# Altium footprint library diode.PcbLib: 63 footprints (part 3 of 4)
Each footprint in its own frame and in the unit in brackets; x right, y up, seen from the top. Pads: shape width x height; smd on the part's side, far side on the other; paste and mask are expansions set on the pad; w line width, h text height; cw(c..) or ccw(c..) is an arc to the next point about the centre after c.
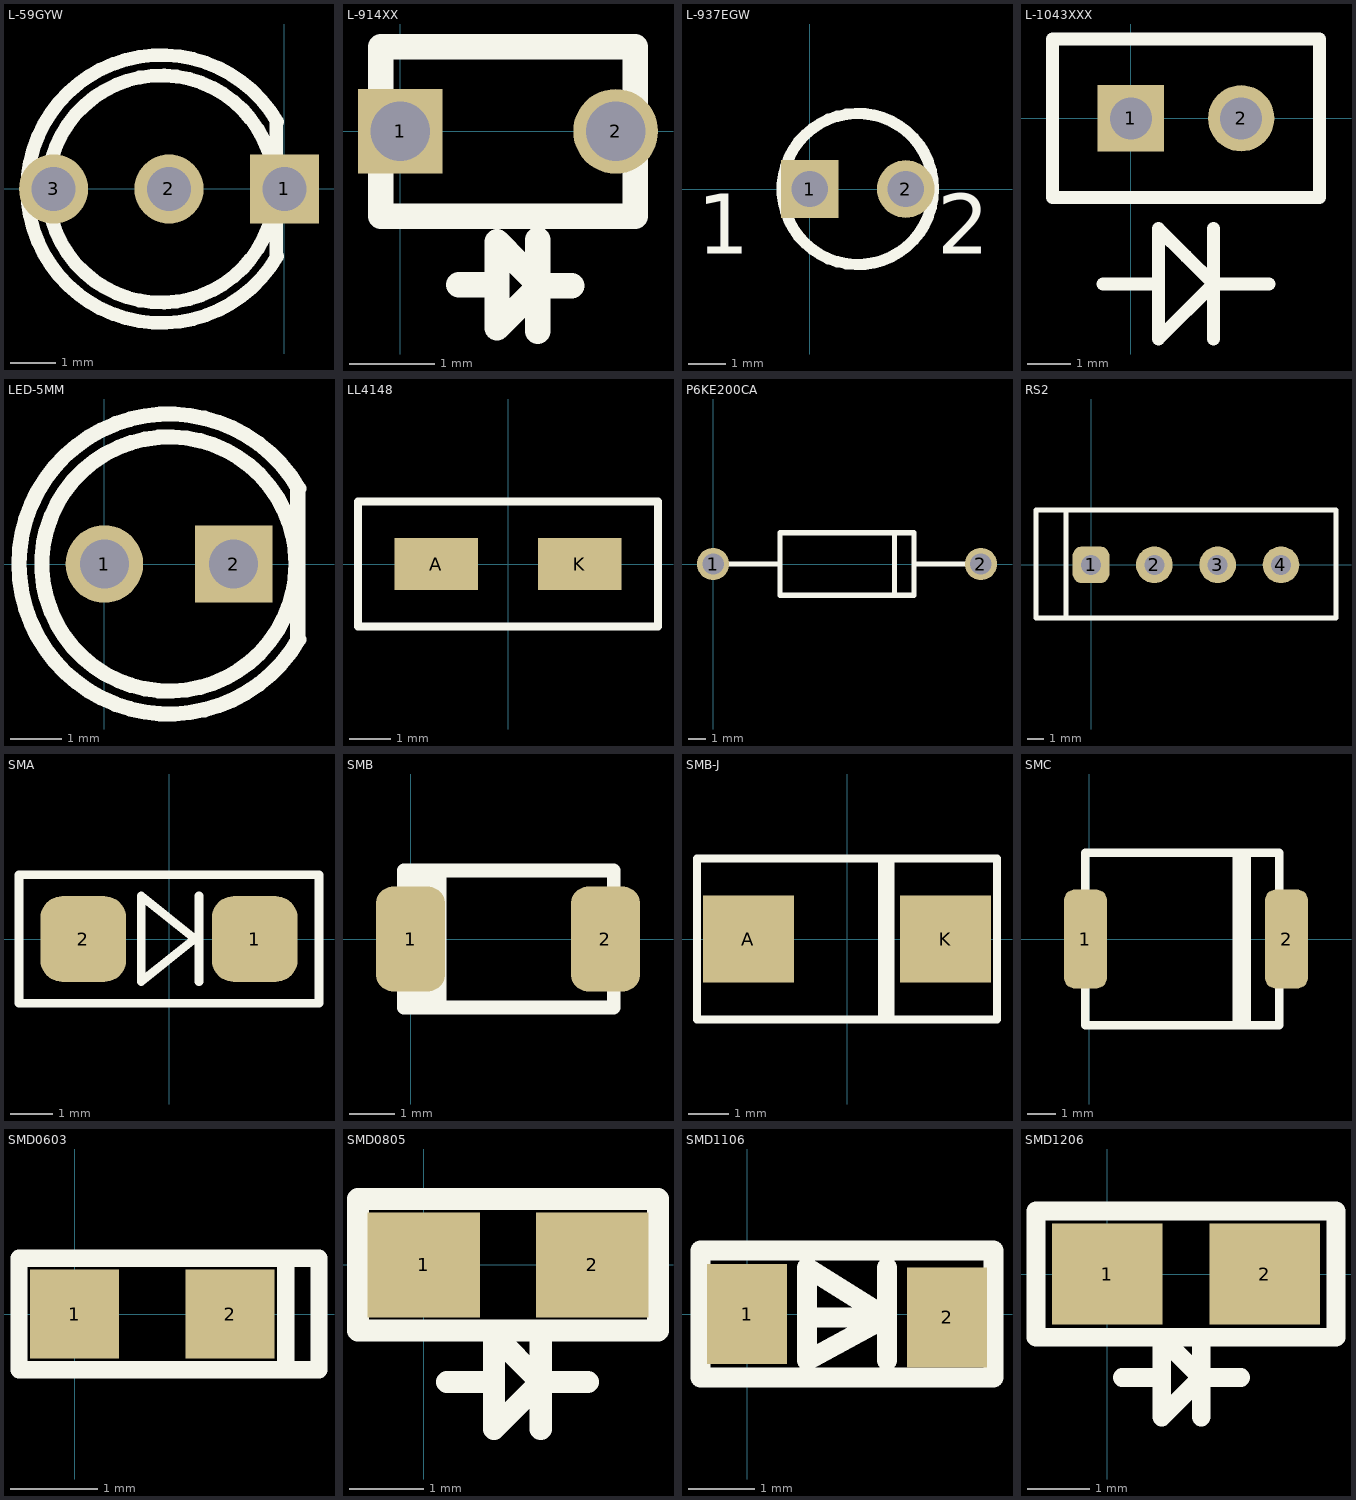
[diagram p2: the footprints below, top view; thin cyan lines are the x and y axes]

## L-59GYW [mil]
pads (3):
  rect 60x60 hole 38: 1(0,0)
  round 60 hole 38: 2(-100,0) 3(-200,0)
Top Overlay:
  circle w11.81: c-106.69,0 r98.43
  lines w11.81: -7.09,-59.06 -7.09,59.06 ; -6.31,-58.42 cw(c-106.69,0) -6.31,58.42

## L-914XX [mm]
pads (2):
  rect 1x1 hole 0.7: 1(0,0)
  round 1 hole 0.7: 2(2.54,0)
Top Overlay:
  lines w0.3: 0.69,-1.81 1.14,-1.81 ; 1.27,-1 2.77,-1 ; 1.62,-2.36 1.62,-1.28 ; 2.02,-1.82 1.645,-1.82 ; 1.14,-1.81 1.14,-1.3 1.645,-1.82 ; 1.14,-1.81 1.14,-2.32 1.645,-1.82 ; 2.77,-1 2.77,1 -0.23,1 -0.23,-1 2.77,-1

## L-937EGW [mil]
pads (2):
  rect 60x60 hole 38: 1(0,0)
  round 60 hole 38: 2(100,0)
Top Overlay:
  circle w11.81: c50,0 r78.74
  text "1" at -117.5,-67.5 h62.5
  text "2" at 132.5,-67.5 h62.5

## L-1043XXX [mil]
pads (2):
  rect 60x60 hole 38: 1(0,0)
  round 60 hole 38: 2(100,0)
Top Overlay:
  lines w11.81: -25,-150 25,-150 ; 75,-200 75,-100 ; 125,-150 75,-150 ; 25,-150 25,-100 50,-125 75,-150 ; 25,-150 25,-200 75,-150 ; -71.06,-71.85 -71.06,71.85 171.06,71.85 171.06,-71.85 -71.06,-71.85

## LED-5MM [mil]
pads (2):
  round 60 hole 38: 1(0,0)
  rect 60x60 hole 38: 2(100,0)
Top Overlay:
  circle w11.81: c50,0 r98.43
  lines w11.81: 149.61,-59.06 149.61,59.06 ; 150.38,-58.42 cw(c50,0) 150.38,58.42

## LL4148 [mm]
pads (2):
  rect 2x1.25 smd: A(-1.725,0) K(1.725,0)
Top Overlay:
  lines w0.2: -3.6,-1.5 -3.6,0 -3.6,1.5 3.6,1.5 3.6,-1.5 -3.6,-1.5

## P6KE200CA [mm]
pads (2):
  round 1.8 hole 1.2: 1(0,0) 2(15,0)
Top Overlay:
  lines w0.3: 0,0 3.7,0 ; 10.16,-1.75 10.16,1.75 ; 11.3,0 15,0 ; 3.75,-1.75 3.75,1.75 11.25,1.75 11.25,-1.75 3.75,-1.75

## RS2 [mm]
pads (4):
  rrect50% 2.2x2.2 hole 1.2: 1(0,0)
  round 2.2 hole 1.2: 2(3.8,0) 3(7.6,0) 4(11.4,0)
Top Overlay:
  lines w0.3: -1.5,-3.2 -1.5,3.3 ; -3.3,-3.2 -3.3,3.3 14.7,3.3 14.7,-3.2 -3.3,-3.2

## SMA [mm]
pads (2):
  rrect50% 2x2 smd: 1(2,0) 2(-2,0)
Top Overlay:
  lines w0.2: 0.7,-0.995 0.7,1.005 ; -3.5,-1.5 -3.5,0 -3.5,1.5 3.5,1.5 3.5,-1.5 -3.5,-1.5 ; -0.65,-0.995 -0.65,1.005 0.6,0.005 -0.65,-0.995

## SMB [mm]
pads (2):
  rrect50% 1.52x2.3 smd: 1(0,0) 2(4.27,0)
Top Overlay:
  lines w0.3: -0.06,-1.5 -0.06,1.5 ; 0.09,-1.5 0.09,1.5 ; 0.19,-1.5 0.19,1.5 ; 0.34,-1.5 0.34,1.5 ; 0.54,-1.5 0.54,1.5 ; 0.64,-1.5 0.64,1.5 ; -0.15,-1.5 -0.15,1.5 4.45,1.5 4.45,-1.5 -0.15,-1.5
3D body "User Library-DO-214AA SMB.step": height 2.3, standoff 0, extent -0.55,-1.8 4.85,1.8

## SMB-J [mm]
pads (2):
  rect 2.26x2.16 smd: A(-2.45,0) K(2.45,0)
Top Overlay:
  lines w0.2: -3.725,-2 3.725,-2 3.725,2 -3.725,2 -3.725,-2
  lines w0.4: 0.975,-1.875 0.975,1.9
3D body "User Library-DO-214AA SMB.step": height 2.3, standoff 0, extent -2.7,-1.8 2.7,1.8

## SMC [mm]
pads (2):
  rrect50% 1.52x3.5 smd: 1(-0.127,0) 2(6.985,0)
Top Overlay:
  region: 5.08,-3.048 5.715,-3.048 5.715,3.048 5.08,3.048
  lines w0.3: -0.127,-3.048 6.731,-3.048 6.731,3.048 -0.127,3.048 -0.127,-3.048
3D body "smcj-Series.stp": height 2.33, standoff 0.01, extent -0.541,-2.953 7.399,2.952

## SMD0603 [mil]
pads (2):
  rect 40x40 smd: 1(0,0) 2(70,0)
Top Overlay:
  lines w7.87: 95,-25 95,25 ; 95,-25 -25,-25 -25,25 95,25 ; 95,-25 110,-25 110,25 95,25
3D body "User Library-D0603.SLDPRT": height 22.05, standoff 0, extent 1.54,-16.75 68.47,14.75

## SMD0805 [mil]
pads (2):
  rect 60x56 smd: 1(0,0) 2(90,0)
Top Overlay:
  lines w11.81: 12.5,-62.5 37.5,-62.5 ; 62.5,-87.5 62.5,-37.5 ; 87.5,-62.5 62.5,-62.5 ; 62.5,-62.5 37.5,-37.5 37.5,-87.5 62.5,-62.5 ; -35,-35 -35,30 -35,35 125,35 125,-30 125,-35 -35,-35

## SMD1106 [mm]
pads (2):
  rect 1.2x1.5 smd: 1(0,0) 2(3,-0.05)
Top Overlay:
  lines w0.3: 0.9,-0.05 2.1,-0.05 ; 2.1,-0.7 2.1,0.7 ; 2.1,-0.05 0.9,0.7 0.9,-0.7 2.1,-0.05 ; -0.7,-0.95 3.7,-0.95 3.7,0.95 -0.7,0.95 -0.7,-0.95

## SMD1206 [mil]
pads (2):
  rect 70x64 smd: 1(0,0) 2(100,0)
Top Overlay:
  lines w11.81: 9.59,-65.45 34.59,-65.45 ; 59.59,-90.45 59.59,-40.45 ; 84.59,-65.45 59.59,-65.45 ; 59.59,-65.45 34.59,-40.45 34.59,-90.45 59.59,-65.45 ; -45,-40 -45,40 145,40 145,-40 -45,-40